# Altium footprint library QSOP.PcbLib: 2 footprints
Each footprint in its own frame and in the unit in brackets; x right, y up, seen from the top. Pads: shape width x height; smd on the part's side, far side on the other; paste and mask are expansions set on the pad; w line width, h text height; cw(c..) or ccw(c..) is an arc to the next point about the centre after c.
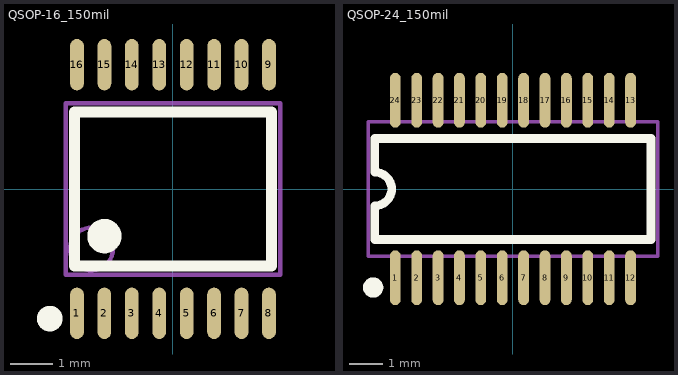
[diagram p0: the footprints below, top view; thin cyan lines are the x and y axes]

## QSOP-16_150mil [mm]
pads (16):
  oval 0.32x1.2 smd: 1(-2.24,-2.9) 2(-1.6,-2.9) 3(-0.96,-2.9) 4(-0.32,-2.9) 5(0.32,-2.9) 6(0.96,-2.9) 7(1.6,-2.9) 8(2.24,-2.9) 9(2.24,2.9) 10(1.6,2.9) 11(0.96,2.9) 12(0.32,2.9) 13(-0.32,2.9) 14(-0.96,2.9) 15(-1.6,2.9) 16(-2.24,2.9)
Top Overlay:
  circle w0.3: c-2.875,-3.025 r0.15
  circle w0.4: c-1.6,-1.1 r0.2
  lines w0.254: -2.3,-1.8 2.3,-1.8 2.3,1.8 -2.3,1.8 -2.3,-1.8
Mechanical 13:
  circle w0.1: c-1.9,-1.4 r0.5
  lines w0.1: -2.5,-2 -2.5,2 2.5,2 2.5,-2 -2.5,-2

## QSOP-24_150mil [mm]
pads (24):
  oval 0.32x1.63 smd: 1(-3.492,-2.635) 2(-2.857,-2.635) 3(-2.222,-2.635) 4(-1.587,-2.635) 5(-0.953,-2.635) 6(-0.318,-2.635) 7(0.318,-2.635) 8(0.953,-2.635) 9(1.587,-2.635) 10(2.222,-2.635) 11(2.857,-2.635) 12(3.492,-2.635) 13(3.492,2.635) 14(2.857,2.635) 15(2.222,2.635) 16(1.587,2.635) 17(0.953,2.635) 18(0.318,2.635) 19(-0.318,2.635) 20(-0.953,2.635) 21(-1.587,2.635) 22(-2.222,2.635) 23(-2.857,2.635) 24(-3.492,2.635)
Top Overlay:
  circle w0.3: c-4.15,-2.925 r0.15
  lines w0.254: -4.1,-1.5 4.1,-1.5 4.1,1.5 -4.1,1.5 -4.1,0.5 cw(c-4.1,0) -4.1,-0.5 -4.1,-1.5
Mechanical 13:
  lines w0.1: -4.3,-2 -4.3,2 4.3,2 4.3,-2 -4.3,-2